# Altium integrated library Integrated_Library - 03.05.18 - 01.34.IntLib: 1 symbol
Pins are listed as number, name and electrical type; pins without a type are passive.

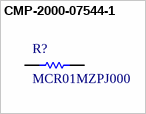
[diagram p0: symbol CMP-2000-07544-1]

## CMP-2000-07544-1
designator R?, comment MCR01MZPJ000
Chip Resistor, 0 Ohm, Jumper, 0.063 W, -55 to 155 degC, 0402 (1005 Metric), RoHS, Tape and Reel; Manufacturer: Rohm; Power Rating: 3W; Resistance: 0mOhm; Max Power Dissipation: 63mW; Temperature Coefficient: 200ppm/degC; Tolerance: 5%; Voltage Rating (DC): 50V; Mounting Technology: SurfaceMount; Datasheet URL: http://www.rohm.com/web/global/datasheet/MCR03EZPFX/mcr-e; Contact Plating: Tin; Length: 1mm; Datasheet Version: Rev. M, 01/2017; Package Description: 2-Pin Surface Mount Device, Body 1 x 0.5 mm; Military Standard: Not; Composition: ThickFilm; Width: 0.02inch; Package Reference: 402; Min Operating Temperature: -55degC; Manufacturer URL: http://www.rohm.com/web/global/; Packaging: TapeandReel; RoHSCompliant: True; Package Quantity: 10000; Mount: SurfaceMount; Max Operating Temperature: 155degC; Lead Free: LeadFree; Height: 0.016inch; Case/Package: 0402; Depth: 0.5mm; Number of Terminations: 2
footprint RESC1005X40X23NL05T08 (Chip Resistor, 2-Leads, Body 1.05x0.55mm, IPC Medium Density)
footprint RESC1005X40X23ML05T08 (Chip Resistor, 2-Leads, Body 1.05x0.55mm, IPC Low Density)
footprint RESC1005X40X23LL05T08 (Chip Resistor, 2-Leads, Body 1.05x0.55mm, IPC High Density)
pins: 1, 2